# EAGLE library part TTGO-T-DISPLAY (library TTGO-TDisplay)
TTGO-TDisplay https://github.com/Xinyuan-LilyGO/TTGO-T-Display
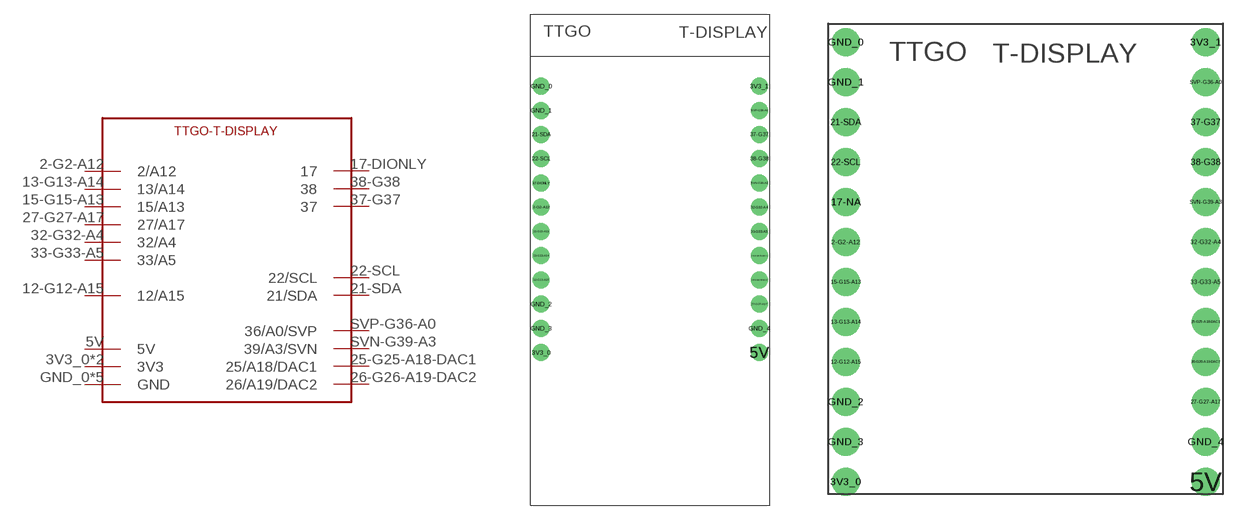
[diagram p0: symbol with the pads of TTGO-T-DISPLAY-OL; footprints TTGO-T-DISPLAY-OL, TTGO-T-DISPLAY-OP]

Designator prefix -

## TTGO-T-DISPLAYFRAME  [TTGO-T-DISPLAY-OL]
2-G2-A12  2/A12
3V3_0  3V3  pwr
3V3_1  3V3  pwr
5V  5V  pwr
12-G12-A15  12/A15  out
13-G13-A14  13/A14
15-G15-A13  15/A13
17-DIONLY  17
21-SDA  21/SDA
22-SCL  22/SCL
25-G25-A18-DAC1  25/A18/DAC1
26-G26-A19-DAC2  26/A19/DAC2
27-G27-A17  27/A17
32-G32-A4  32/A4
33-G33-A5  33/A5
37-G37  37
38-G38  38
GND_0  GND  pwr
GND_1  GND  pwr
GND_2  GND  pwr
GND_3  GND  pwr
GND_4  GND  pwr
SVN-G39-A3  39/A3/SVN
SVP-G36-A0  36/A0/SVP

## TTGO-T-DISPLAYPINS  [TTGO-T-DISPLAY-OP]
2-G2-A12  2/A12
3V3_0  3V3  pwr
3V3_1  3V3  pwr
5V  5V  pwr
12-G12-A15  12/A15  out
13-G13-A14  13/A14
15-G15-A13  15/A13
17-NA  17
21-SDA  21/SDA
22-SCL  22/SCL
25-G25-A18-DAC1  25/A18/DAC1
26-G26-A19-DAC2  26/A19/DAC2
27-G27-A17  27/A17
32-G32-A4  32/A4
33-G33-A5  33/A5
37-G37  37
38-G38  38
GND_0  GND  pwr
GND_1  GND  pwr
GND_2  GND  pwr
GND_3  GND  pwr
GND_4  GND  pwr
SVN-G39-A3  39/A3/SVN
SVP-G36-A0  36/A0/SVP

## Footprint TTGO-T-DISPLAY-OL (pad centres in mm)
drill 1 pad 1.78: 2-G2-A12 1.11,31.25; 3V3_0 1.11,16.01; 3V3_1 23.97,43.95; 5V 23.97,16.01; 12-G12-A15 1.11,23.63; 13-G13-A14 1.11,26.17; 15-G15-A13 1.11,28.71; 17-DIONLY 1.11,33.79; 21-SDA 1.11,38.87; 22-SCL 1.11,36.33; 25-G25-A18-DAC1 23.97,26.17; 26-G26-A19-DAC2 23.97,23.63; 27-G27-A17 23.97,21.09; 32-G32-A4 23.97,31.25; 33-G33-A5 23.97,28.71; 37-G37 23.97,38.87; 38-G38 23.97,36.33; GND_0 1.11,43.95; GND_1 1.11,41.41; GND_2 1.11,21.09; GND_3 1.11,18.55; GND_4 23.97,18.55; SVN-G39-A3 23.97,33.79; SVP-G36-A0 23.97,41.41

## Footprint TTGO-T-DISPLAY-OP (pad centres in mm)
drill 1 pad 1.78: 2-G2-A12 1.11,31.25; 3V3_0 1.11,16.01; 3V3_1 23.97,43.95; 5V 23.97,16.01; 12-G12-A15 1.11,23.63; 13-G13-A14 1.11,26.17; 15-G15-A13 1.11,28.71; 17-NA 1.11,33.79; 21-SDA 1.11,38.87; 22-SCL 1.11,36.33; 25-G25-A18-DAC1 23.97,26.17; 26-G26-A19-DAC2 23.97,23.63; 27-G27-A17 23.97,21.09; 32-G32-A4 23.97,31.25; 33-G33-A5 23.97,28.71; 37-G37 23.97,38.87; 38-G38 23.97,36.33; GND_0 1.11,43.95; GND_1 1.11,41.41; GND_2 1.11,21.09; GND_3 1.11,18.55; GND_4 23.97,18.55; SVN-G39-A3 23.97,33.79; SVP-G36-A0 23.97,41.41